# EAGLE library part AAT3124ITO (library pimoroni-ics)
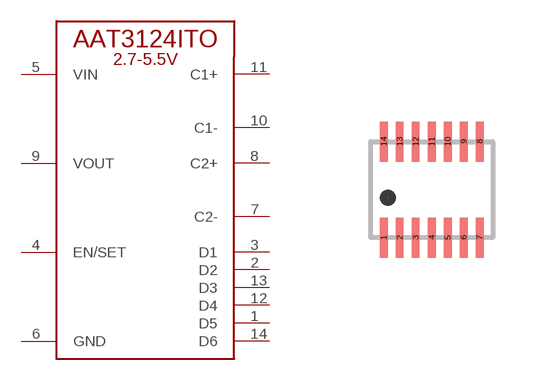
[diagram p94: symbol with the pads of TSOPJW-14; footprint TSOPJW-14]

Designator prefix U

## AAT3124ITO  [TSOPJW-14]
1  D5
2  D2
3  D1
4  EN/SET
5  VIN
6  GND
7  C2-
8  C2+
9  VOUT
10  C1-
11  C1+
12  D4
13  D3
14  D6

## Footprint TSOPJW-14 (pad centres in mm)
smd 0.2 x 1: 1 -1.2,-1.2; 2 -0.8,-1.2; 3 -0.4,-1.2; 4 0,-1.2; 5 0.4,-1.2; 6 0.8,-1.2; 7 1.2,-1.2; 8 1.2,1.2; 9 0.8,1.2; 10 0.4,1.2; 11 0,1.2; 12 -0.4,1.2; 13 -0.8,1.2; 14 -1.2,1.2